# Altium schematic symbol library CC0402MRX5R6BB475.SchLib: 1 symbol
Pins are listed as number, name and electrical type; pins without a type are passive.

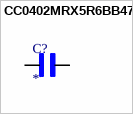
[diagram p0: symbol CC0402MRX5R6BB475]

## CC0402MRX5R6BB475
designator C?
MF: {'manufacturer': u'YAGEO'}; MP: CC0402MRX5R6BB475; Package: None; Price: None; Value: *; Availability: Unavailable
footprint CAPC1005X55N
pins: 1, 2